# EAGLE library part Z80_SIO2 (library rcbussbc)
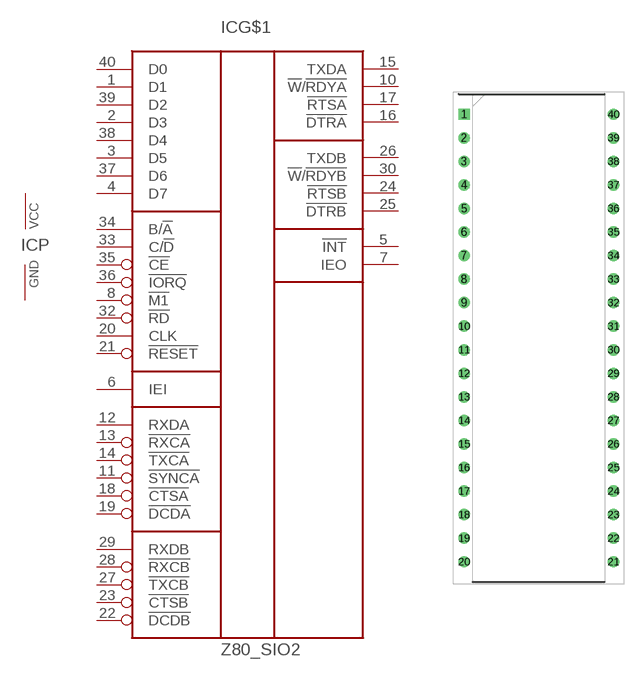
[diagram p16: symbol with the pads of DIP1612W53P254L5232H406Q40N; footprint DIP1612W53P254L5232H406Q40N]

Designator prefix IC; gates G$1=Z80_SIO2 P=PWRN:1

## Z80_SIO2  [DIP1612W53P254L5232H406Q40N]
1  G$1:D1
2  G$1:D3
3  G$1:D5
4  G$1:D7
5  G$1:!INT  oc
6  G$1:IEI
7  G$1:IEO  out
8  G$1:!M1  in
9  P:VCC  pwr
10  G$1:!W!/!RDYA  out
11  G$1:!SYNCA
12  G$1:RXDA  in
13  G$1:!RXCA  in
14  G$1:!TXCA  in
15  G$1:TXDA  out
16  G$1:!DTRA  out
17  G$1:!RTSA  out
18  G$1:!CTSA  in
19  G$1:!DCDA  in
20  G$1:CLK  in
21  G$1:!RESET  in
22  G$1:!DCDB  in
23  G$1:!CTSB  in
24  G$1:!RTSB  out
25  G$1:!DTRB  out
26  G$1:TXDB  out
27  G$1:!TXCB  in
28  G$1:!RXCB  in
29  G$1:RXDB  in
30  G$1:!W!/!RDYB  out
31  P:GND  pwr
32  G$1:!RD  in
33  G$1:C/!D  in
34  G$1:B/!A  in
35  G$1:!CE  in
36  G$1:!IORQ  in
37  G$1:D6
38  G$1:D4
39  G$1:D2
40  G$1:D0

## Footprint DIP1612W53P254L5232H406Q40N (pad centres in mm)
PDIP-40
drill 0.73 pad 1.13 square: 1 -8.062,24.13
drill 0.73 pad 1.13: 2 -8.062,21.59; 3 -8.062,19.05; 4 -8.062,16.51; 5 -8.062,13.97; 6 -8.062,11.43; 7 -8.062,8.89; 8 -8.062,6.35; 9 -8.062,3.81; 10 -8.062,1.27; 11 -8.062,-1.27; 12 -8.062,-3.81; 13 -8.062,-6.35; 14 -8.062,-8.89; 15 -8.062,-11.43; 16 -8.062,-13.97; 17 -8.062,-16.51; 18 -8.062,-19.05; 19 -8.062,-21.59; 20 -8.062,-24.13; 21 8.062,-24.13; 22 8.062,-21.59; 23 8.062,-19.05; 24 8.062,-16.51; 25 8.062,-13.97; 26 8.062,-11.43; 27 8.062,-8.89; 28 8.062,-6.35; 29 8.062,-3.81; 30 8.062,-1.27; 31 8.062,1.27; 32 8.062,3.81; 33 8.062,6.35; 34 8.062,8.89; 35 8.062,11.43; 36 8.062,13.97; 37 8.062,16.51; 38 8.062,19.05; 39 8.062,21.59; 40 8.062,24.13